# Altium schematic symbol library 3PinMolex.SchLib: 1 symbol
Pins are listed as number, name and electrical type; pins without a type are passive.

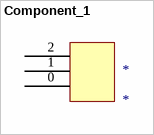
[diagram p0: symbol Component_1]

## Component_1
designator *
footprint 3PinMolex (Footprint not found)
pins: 0, 1, 2